# Altium schematic symbol library Connector_Amphenol.SchLib: 3 symbols
Pins are listed as number, name and electrical type; pins without a type are passive.

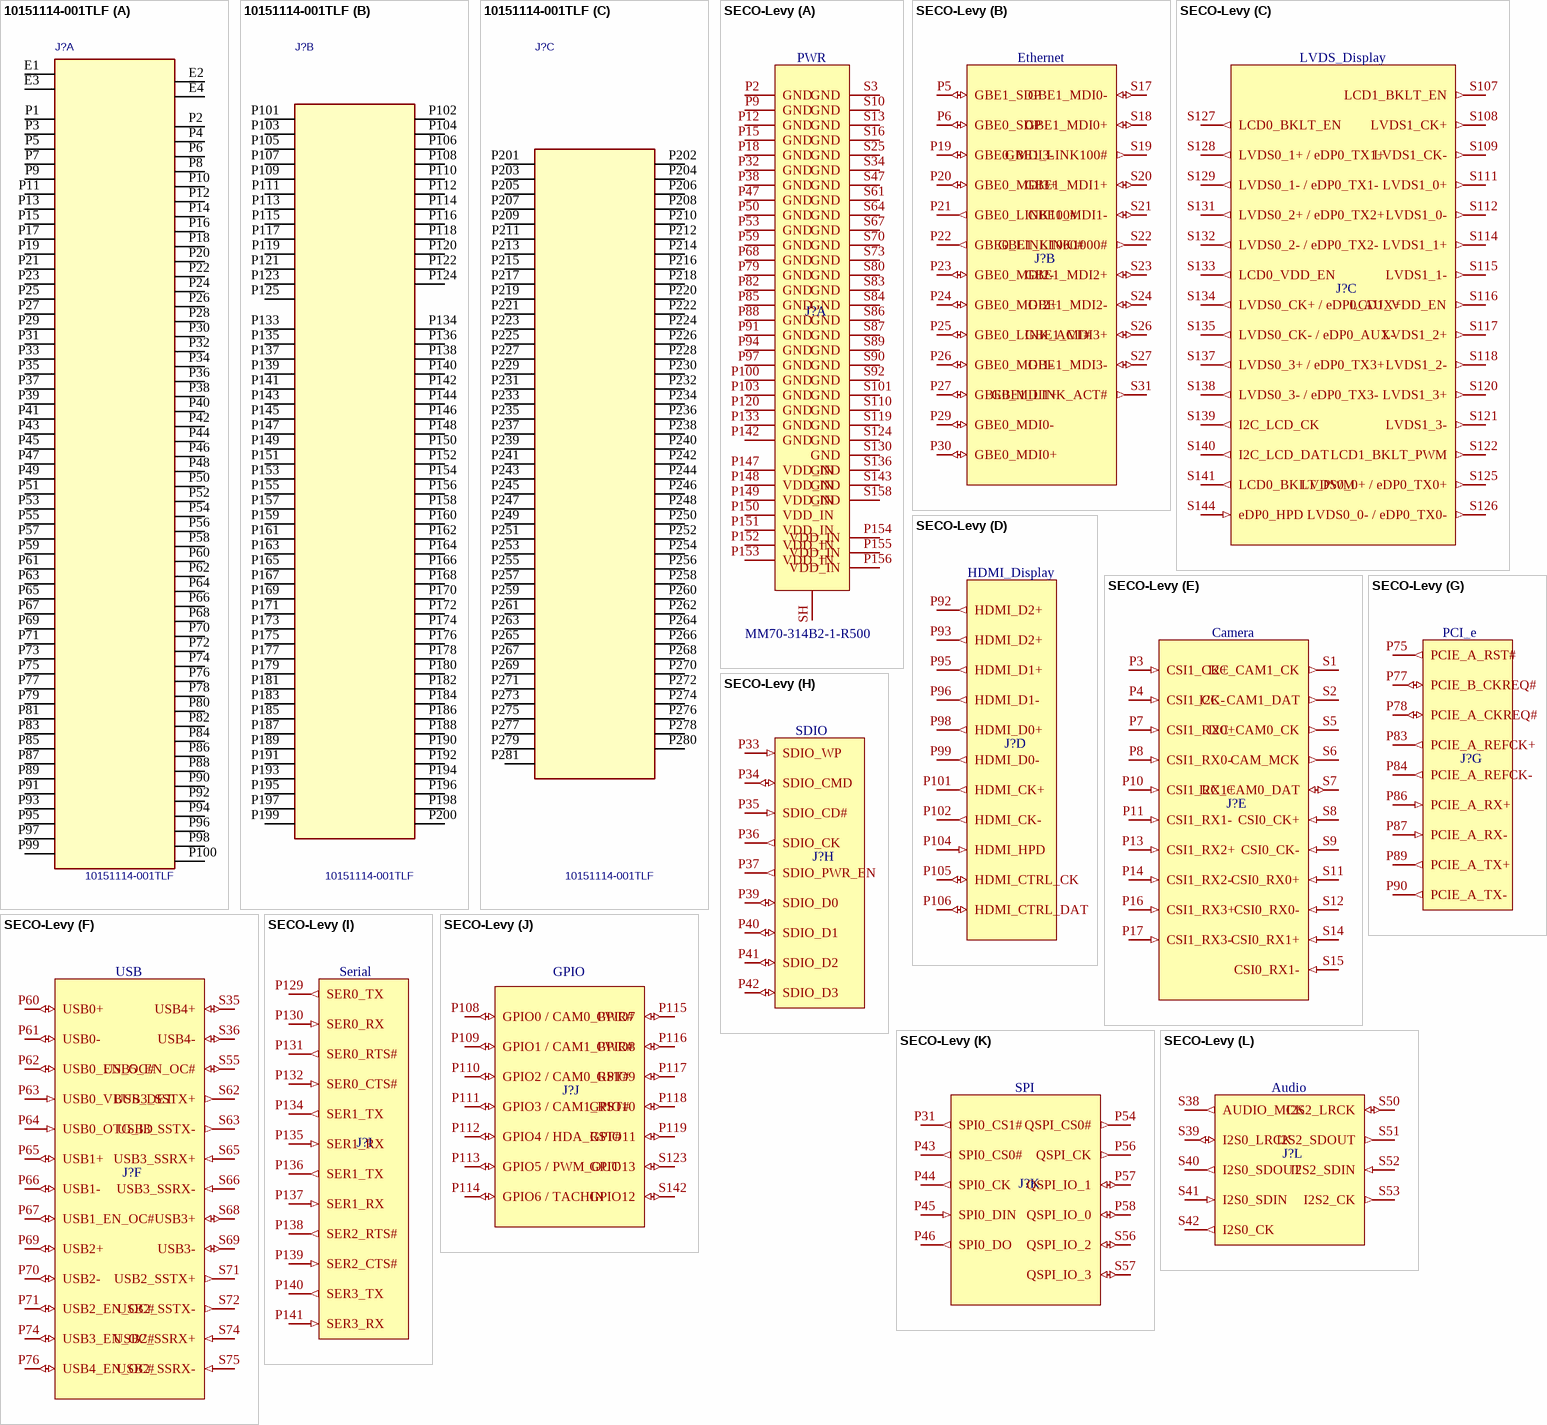
[diagram p0: symbols 10151114-001TLF to SECO-Levy]

## 10151114-001TLF
designator J?  value 10151114-001TLF  (hidden comment: *)
PCIe MXM 3.0 Connectors, Storage and Server Connector, Right Angle, Surface mount, P=0.5mm, Stack Height = 5.0mm, 30μin Gold Plating\n                        \n; Manufacturer: Amphenol Communications Solutions; MF: Amphenol ICC (FCI); Description_: \n                        \n                            PCIe MXM 3.0 Connectors, Storage and Server Connector, Right Angle, Surface mount, P=0.5mm, Stack Height = 5.0mm, 30μin Gold Plating\n                        \n; Contact Resistance: 30mΩ; Current Rating: 1.1A; Dielectric Material: Polyethylene; Operating Force: 1.15N; Plating Thickness: 762nm; Footprint: 10151114-001TLF:AMPHENOL_10151114-001TLF; MAXIMUM_PACKAGE_HEIGHT: 7.8 mm; Package: None; Price: None; Check_prices: https://www.snapeda.com/parts/10151114-001TLF/Amphenol+FCI/view-part/?ref=eda; STANDARD: Manufacturer Recommendations; PARTREV: B; SnapEDA_Link: https://www.snapeda.com/parts/10151114-001TLF/Amphenol+FCI/view-part/?ref=snap; MP: 10151114-001TLF; Availability: In Stock; Category: Card Edge Connectors; China RoHS: Compliant; Contact Gender: Female; Lifecycle Status: Production; Manufacturer Part Number: 10151114-001TLF; Pins: 314; Number of Rows: 2; REACH SVHC: Yes; RoHS: Compliant; Terminal Pitch: 500µm; Supplier 1: Mouser; Supplier Part Number 1: 649-10151114001TLF; Supplier Packaging 1: Tray; Supplier Unit Price 1: $17.50; Supplier Location 1: US
footprint AMPHENOL_10151114-001TLF
part A pins: E1, E2, E3, E4, P1, P2, P3, P4, P5, P6, P7, P8, P9, P10, P11, P12, P13, P14, P15, P16, P17, P18, P19, P20, P21, P22, P23, P24, P25, P26, P27, P28, P29, P30, P31, P32, P33, P34, P35, P36, P37, P38, P39, P40, P41, P42, P43, P44, P45, P46, P47, P48, P49, P50, P51, P52, P53, P54, P55, P56, P57, P58, P59, P60, P61, P62, P63, P64, P65, P66, P67, P68, P69, P70, P71, P72, P73, P74, P75, P76, P77, P78, P79, P80, P81, P82, P83, P84, P85, P86, P87, P88, P89, P90, P91, P92, P93, P94, P95, P96, P97, P98, P99, P100
part B pins: P101, P102, P103, P104, P105, P106, P107, P108, P109, P110, P111, P112, P113, P114, P115, P116, P117, P118, P119, P120, P121, P122, P123, P124, P125, P133, P134, P135, P136, P137, P138, P139, P140, P141, P142, P143, P144, P145, P146, P147, P148, P149, P150, P151, P152, P153, P154, P155, P156, P157, P158, P159, P160, P161, P162, P163, P164, P165, P166, P167, P168, P169, P170, P171, P172, P173, P174, P175, P176, P177, P178, P179, P180, P181, P182, P183, P184, P185, P186, P187, P188, P189, P190, P191, P192, P193, P194, P195, P196, P197, P198, P199, P200
part C pins: P201, P202, P203, P204, P205, P206, P207, P208, P209, P210, P211, P212, P213, P214, P215, P216, P217, P218, P219, P220, P221, P222, P223, P224, P225, P226, P227, P228, P229, P230, P231, P232, P233, P234, P235, P236, P237, P238, P239, P240, P241, P242, P243, P244, P245, P246, P247, P248, P249, P250, P251, P252, P253, P254, P255, P256, P257, P258, P259, P260, P261, P262, P263, P264, P265, P266, P267, P268, P269, P270, P271, P272, P273, P274, P275, P276, P277, P278, P279, P280, P281

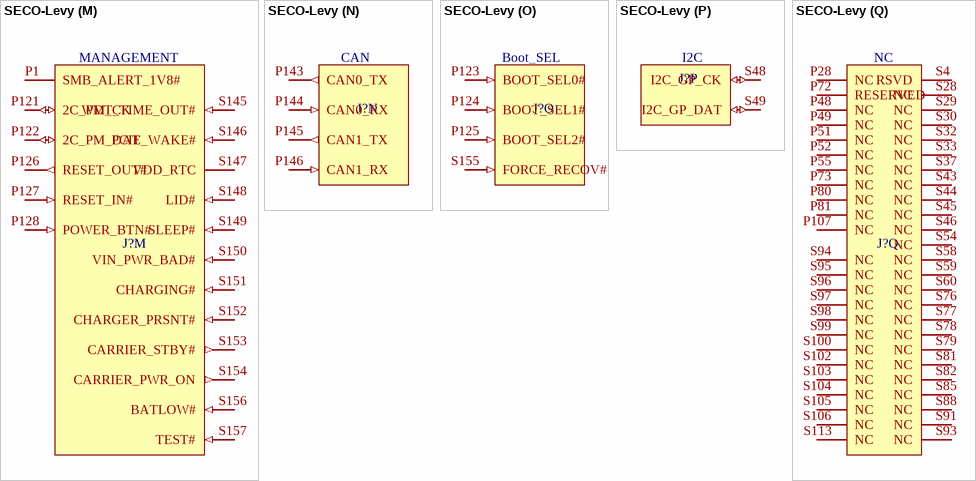
[diagram p1: symbol SECO-Levy]

## SECO-Levy
designator J?  (value not drawn)
Manufacturer: Amphenol Communications Solutions; Manufacturer Part Number: 10151114-001TLF; Contact Resistance: 30mΩ; Current Rating: 1.1A; Dielectric Material: Polyethylene; Gender: Female; Number of Positions: 314; Operating Force: 1.15N; Plating Thickness: 762nm; Ratings: CSA; Category: Card Edge Connectors; China RoHS: Compliant; Color: Black; Lifecycle Status: Production; Number of Rows: 2; REACH SVHC: Yes; RoHS: Compliant; Terminal Pitch: 500µm; Supplier 1: Mouser; Supplier Part Number 1: 649-10151114001TLF; Supplier Packaging 1: Tray; Supplier Unit Price 1: $14.74; Supplier Location 1: US; Manufacturer 2: JAE Electronics; Manufacturer Part Number 2: MM70-314B2-1-R500; DNP: *
footprint Levy
part A pins: P2 GND (power), P9 GND (power), P12 GND (power), P15 GND (power), P18 GND (power), P32 GND (power), P38 GND (power), P47 GND (power), P50 GND (power), P53 GND (power), P59 GND (power), P68 GND (power), P79 GND (power), P82 GND (power), P85 GND (power), P88 GND (power), P91 GND (power), P94 GND (power), P97 GND (power), P100 GND (power), P103 GND (power), P120 GND (power), P133 GND (power), P142 GND (power), P147 VDD_IN (power), P148 VDD_IN (power), P149 VDD_IN (power), P150 VDD_IN (power), P151 VDD_IN (power), P152 VDD_IN (power), P153 VDD_IN (power), P154 VDD_IN (power), P155 VDD_IN (power), P156 VDD_IN (power), S3 GND (power), S10 GND (power), S13 GND (power), S16 GND (power), S25 GND (power), S34 GND (power), S47 GND (power), S61 GND (power), S64 GND (power), S67 GND (power), S70 GND (power), S73 GND (power), S80 GND (power), S83 GND (power), S84 GND (power), S86 GND (power), S87 GND (power), S89 GND (power), S90 GND (power), S92 GND (power), S101 GND (power), S110 GND (power), S119 GND (power), S124 GND (power), S130 GND (power), S136 GND (power), S143 GND (power), S158 GND (power), SH (power)
part B pins: P5 GBE1_SDP (io) "Ethernet", P6 GBE0_SDP (io), P19 GBE0_MDI3- (io), P20 GBE0_MDI3+ (io), P21 GBE0_LINK100# (out), P22 GBE0_LINK1000# (out), P23 GBE0_MDI2- (io), P24 GBE0_MDI2+ (io), P25 GBE0_LINK_ACT# (io), P26 GBE0_MDI1- (io), P27 GBE0_MDI1+ (io), P29 GBE0_MDI0- (io), P30 GBE0_MDI0+ (io), S17 GBE1_MDI0- (io), S18 GBE1_MDI0+ (io), S19 GBE1_LINK100# (out), S20 GBE1_MDI1+ (io), S21 GBE1_MDI1- (io), S22 GBE1_LINK1000# (out), S23 GBE1_MDI2+ (io), S24 GBE1_MDI2- (io), S26 GBE1_MDI3+ (io), S27 GBE1_MDI3- (io), S31 GBE1_LINK_ACT# (out)
part C pins: S107 LCD1_BKLT_EN (out), S108 LVDS1_CK+ (out), S109 LVDS1_CK- (out), S111 LVDS1_0+ (out), S112 LVDS1_0- (out), S114 LVDS1_1+ (out), S115 LVDS1_1- (out), S116 LCD1_VDD_EN (out), S117 LVDS1_2+ (out), S118 LVDS1_2- (out), S120 LVDS1_3+ (out), S121 LVDS1_3- (out), S122 LCD1_BKLT_PWM (out), S125 LVDS0_0+ / eDP0_TX0+ (out), S126 LVDS0_0- / eDP0_TX0- (out), S127 LCD0_BKLT_EN (out), S128 LVDS0_1+ / eDP0_TX1+ (out), S129 LVDS0_1- / eDP0_TX1- (out), S131 LVDS0_2+ / eDP0_TX2+ (out), S132 LVDS0_2- / eDP0_TX2- (out), S133 LCD0_VDD_EN (out), S134 LVDS0_CK+ / eDP0_AUX+ (out), S135 LVDS0_CK- / eDP0_AUX- (out), S137 LVDS0_3+ / eDP0_TX3+ (out), S138 LVDS0_3- / eDP0_TX3- (out), S139 I2C_LCD_CK (out), S140 I2C_LCD_DAT (out), S141 LCD0_BKLT_PWM (out), S144 eDP0_HPD (in)
part D pins: P92 HDMI_D2+ (out), P93 HDMI_D2+ (out), P95 HDMI_D1+ (out), P96 HDMI_D1- (out), P98 HDMI_D0+ (out), P99 HDMI_D0- (out), P101 HDMI_CK+ (out), P102 HDMI_CK- (out), P104 HDMI_HPD (in), P105 HDMI_CTRL_CK (io), P106 HDMI_CTRL_DAT (io)
part E pins: P3 CSI1_CK+ (in), P4 CSI1_CK- (in), P7 CSI1_RX0+ (in), P8 CSI1_RX0- (in), P10 CSI1_RX1+ (in), P11 CSI1_RX1- (in), P13 CSI1_RX2+ (in), P14 CSI1_RX2- (in), P16 CSI1_RX3+ (in), P17 CSI1_RX3- (in), S1 I2C_CAM1_CK (out), S2 I2C_CAM1_DAT (out), S5 I2C_CAM0_CK (out), S6 CAM_MCK (out), S7 I2C_CAM0_DAT (io), S8 CSI0_CK+ (in), S9 CSI0_CK- (in), S11 CSI0_RX0+ (in), S12 CSI0_RX0- (in), S14 CSI0_RX1+ (in), S15 CSI0_RX1- (in)
part F pins: P60 USB0+ (io), P61 USB0- (io), P62 USB0_EN_OC# (io), P63 USB0_VBUS_DET (in), P64 USB0_OTG_ID (in), P65 USB1+ (io), P66 USB1- (io), P67 USB1_EN_OC# (io), P69 USB2+ (io), P70 USB2- (io), P71 USB2_EN_OC# (io), P74 USB3_EN_OC# (io), P76 USB4_EN_OC# (io), S35 USB4+ (io), S36 USB4- (io), S55 USB5_EN_OC# (io), S62 USB3_SSTX+ (out), S63 USB3_SSTX- (out), S65 USB3_SSRX+ (in), S66 USB3_SSRX- (in), S68 USB3+ (io), S69 USB3- (io), S71 USB2_SSTX+ (out), S72 USB2_SSTX- (out), S74 USB2_SSRX+ (in), S75 USB2_SSRX- (in)
part G pins: P75 PCIE_A_RST# (out), P77 PCIE_B_CKREQ# (io), P78 PCIE_A_CKREQ# (io), P83 PCIE_A_REFCK+ (out), P84 PCIE_A_REFCK- (out), P86 PCIE_A_RX+ (in), P87 PCIE_A_RX- (in), P89 PCIE_A_TX+ (out), P90 PCIE_A_TX- (out)
part H pins: P33 SDIO_WP (in), P34 SDIO_CMD (io), P35 SDIO_CD# (in), P36 SDIO_CK (out), P37 SDIO_PWR_EN (out), P39 SDIO_D0 (io), P40 SDIO_D1 (io), P41 SDIO_D2 (io), P42 SDIO_D3 (io)
part I pins: P129 SER0_TX (out), P130 SER0_RX (in), P131 SER0_RTS# (out), P132 SER0_CTS# (in), P134 SER1_TX (out), P135 SER1_RX (in), P136 SER1_TX (out), P137 SER1_RX (in), P138 SER2_RTS# (out), P139 SER2_CTS# (in), P140 SER3_TX (out), P141 SER3_RX (in)
part J pins: P108 GPIO0 / CAM0_PWR# (io), P109 GPIO1 / CAM1_PWR# (io), P110 GPIO2 / CAM0_RST# (io), P111 GPIO3 / CAM1_RST# (io), P112 GPIO4 / HDA_RST# (io), P113 GPIO5 / PWM_OUT (io), P114 GPIO6 / TACHIN (io), P115 GPIO7 (io), P116 GPIO8 (io), P117 GPIO9 (io), P118 GPIO10 (io), P119 GPIO11 (io), S123 GPIO13 (io), S142 GPIO12 (io)
part K pins: P31 SPI0_CS1# (out), P43 SPI0_CS0# (out), P44 SPI0_CK (out), P45 SPI0_DIN (in), P46 SPI0_DO (out), P54 QSPI_CS0# (out), P56 QSPI_CK (out), P57 QSPI_IO_1 (io), P58 QSPI_IO_0 (io), S56 QSPI_IO_2 (io), S57 QSPI_IO_3 (io)
part L pins: S38 AUDIO_MCK (out), S39 I2S0_LRCK (io), S40 I2S0_SDOUT (out), S41 I2S0_SDIN (in), S42 I2S0_CK (out), S50 I2S2_LRCK (io), S51 I2S2_SDOUT (out), S52 I2S2_SDIN (in), S53 I2S2_CK (out)
part M pins: P1 SMB_ALERT_1V8# (power), P121 2C_PM_CK (io), P122 2C_PM_DAT (io), P126 RESET_OUT# (out), P127 RESET_IN# (in), P128 POWER_BTN# (in), S145 WDT_TIME_OUT# (in), S146 PCIE_WAKE# (in), S147 VDD_RTC (power), S148 LID# (in), S149 SLEEP# (in), S150 VIN_PWR_BAD# (in), S151 CHARGING# (in), S152 CHARGER_PRSNT# (in), S153 CARRIER_STBY# (out), S154 CARRIER_PWR_ON (out), S156 BATLOW# (in), S157 TEST# (in)
part N pins: P143 CAN0_TX (out), P144 CAN0_RX (in), P145 CAN1_TX (out), P146 CAN1_RX (in)
part O pins: P123 BOOT_SEL0# (in), P124 BOOT_SEL1# (in), P125 BOOT_SEL2# (in), S155 FORCE_RECOV# (in)
part P pins: S48 I2C_GP_CK (io), S49 I2C_GP_DAT (io)
part Q pins: P28 NC, P48 NC, P49 NC, P51 NC, P52 NC, P55 NC, P72 RESERVED, P73 NC, P80 NC, P81 NC, P107 NC, S4 RSVD, S28 NC, S29 NC, S30 NC, S32 NC, S33 NC, S37 NC, S43 NC, S44 NC, S45 NC, S46 NC, S54 NC, S58 NC, S59 NC, S60 NC, S76 NC, S77 NC, S78 NC, S79 NC, S81 NC, S82 NC, S85 NC, S88 NC, S91 NC, S93 NC, S94 NC, S95 NC, S96 NC, S97 NC, S98 NC, S99 NC, S100 NC, S102 NC, S103 NC, S104 NC, S105 NC, S106 NC, S113 NC
part A text: PWR
part B text: Ethernet
part C text: LVDS_Display
part D text: HDMI_Display
part E text: Camera
part F text: USB
part G text: PCI_e
part H text: SDIO
part I text: Serial
part J text: GPIO
part K text: SPI
part L text: Audio
part M text: MANAGEMENT
part N text: CAN
part O text: Boot_SEL
part P text: I2C

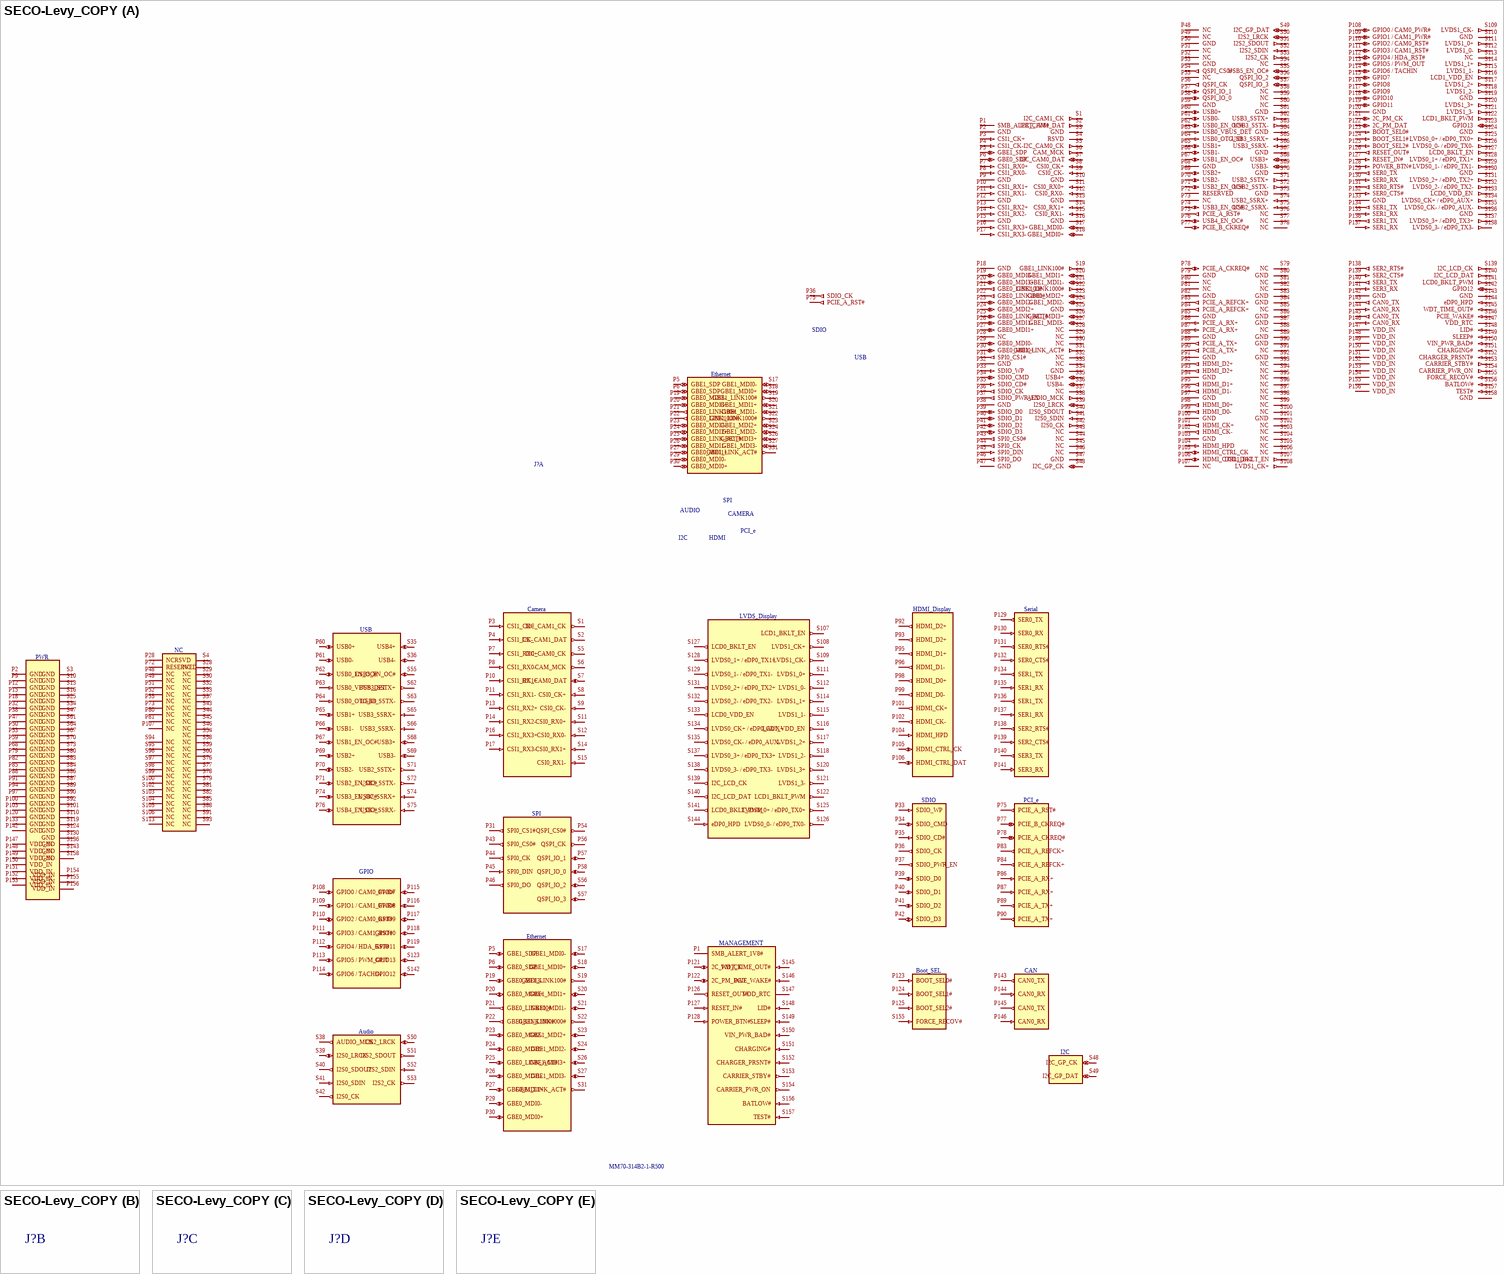
[diagram p2: symbol SECO-Levy_COPY]

## SECO-Levy_COPY
designator J?  (value not drawn)
part A pins: P1 SMB_ALERT_1V8# (power), P1 SMB_ALERT_1V8# (power), P2 GND (power), P2 GND (power), P3 CSI1_CK+ (in), P3 CSI1_CK+ (in), P4 CSI1_CK- (in), P4 CSI1_CK- (in), P5 GBE1_SDP (io) "Ethernet", P5 GBE1_SDP (io) "Ethernet", P5 GBE1_SDP (io) "Ethernet", P6 GBE0_SDP (io), P6 GBE0_SDP (io), P6 GBE0_SDP (io), P7 CSI1_RX0+ (in), P7 CSI1_RX0+ (in), P8 CSI1_RX0- (in), P8 CSI1_RX0- (in), P9 GND (power), P9 GND (power), P10 CSI1_RX1+ (in), P10 CSI1_RX1+ (in), P11 CSI1_RX1- (in), P11 CSI1_RX1- (in), P12 GND (power), P12 GND (power), P13 CSI1_RX2+ (in), P13 CSI1_RX2+ (in), P14 CSI1_RX2- (in), P14 CSI1_RX2- (in), P15 GND (power), P15 GND (power), P16 CSI1_RX3+ (in), P16 CSI1_RX3+ (in), P17 CSI1_RX3- (in), P17 CSI1_RX3- (in), P18 GND (power), P18 GND (power), P19 GBE0_MDI3- (io), P19 GBE0_MDI3- (io), P19 GBE0_MDI3- (io), P20 GBE0_MDI3+ (io), P20 GBE0_MDI3+ (io), P20 GBE0_MDI3+ (io), P21 GBE0_LINK100# (out), P21 GBE0_LINK100# (out), P21 GBE0_LINK100# (out), P22 GBE0_LINK1000# (out), P22 GBE0_LINK1000# (out), P22 GBE0_LINK1000# (out), P23 GBE0_MDI2- (io), P23 GBE0_MDI2- (io), P23 GBE0_MDI2- (io), P24 GBE0_MDI2+ (io), P24 GBE0_MDI2+ (io), P24 GBE0_MDI2+ (io), P25 GBE0_LINK_ACT# (io), P25 GBE0_LINK_ACT# (io), P25 GBE0_LINK_ACT# (io), P26 GBE0_MDI1- (io), P26 GBE0_MDI1- (io), P26 GBE0_MDI1- (io), P27 GBE0_MDI1+ (io), P27 GBE0_MDI1+ (io), P27 GBE0_MDI1+ (io), P28 NC, P28 NC, P29 GBE0_MDI0- (io), P29 GBE0_MDI0- (io), P29 GBE0_MDI0- (io), P30 GBE0_MDI0+ (io), P30 GBE0_MDI0+ (io), P30 GBE0_MDI0+ (io), P31 SPI0_CS1# (out), P31 SPI0_CS1# (out), P32 GND (power), P32 GND (power), P33 SDIO_WP (in), P33 SDIO_WP (in), P34 SDIO_CMD (io), P34 SDIO_CMD (io), P35 SDIO_CD# (in), P35 SDIO_CD# (in), P36 SDIO_CK (out), P36 SDIO_CK (out), P36 SDIO_CK (out), P37 SDIO_PWR_EN (out), P37 SDIO_PWR_EN (out), P38 GND (power), P38 GND (power), P39 SDIO_D0 (io), P39 SDIO_D0 (io), P40 SDIO_D1 (io), P40 SDIO_D1 (io), P41 SDIO_D2 (io), P41 SDIO_D2 (io), P42 SDIO_D3 (io), P42 SDIO_D3 (io), P43 SPI0_CS0# (out), P43 SPI0_CS0# (out), P44 SPI0_CK (out), P44 SPI0_CK (out), P45 SPI0_DIN (in), P45 SPI0_DIN (in), P46 SPI0_DO (out), P46 SPI0_DO (out), P47 GND (power), P47 GND (power), P48 NC, P48 NC, P49 NC, P49 NC, P50 GND (power), P50 GND (power), P51 NC, P51 NC, P52 NC, P52 NC, P53 GND (power), P53 GND (power), P54 QSPI_CS0# (out), P54 QSPI_CS0# (out), P55 NC, P55 NC, P56 QSPI_CK (out), P56 QSPI_CK (out), P57 QSPI_IO_1 (io), P57 QSPI_IO_1 (io), P58 QSPI_IO_0 (io), P58 QSPI_IO_0 (io), P59 GND (power), P59 GND (power), P60 USB0+ (io), P60 USB0+ (io), P61 USB0- (io), P61 USB0- (io), P62 USB0_EN_OC# (io), P62 USB0_EN_OC# (io), P63 USB0_VBUS_DET (in), P63 USB0_VBUS_DET (in), P64 USB0_OTG_ID (in), P64 USB0_OTG_ID (in), P65 USB1+ (io), P65 USB1+ (io), P66 USB1- (io), P66 USB1- (io), P67 USB1_EN_OC# (io), P67 USB1_EN_OC# (io), P68 GND (power), P68 GND (power), P69 USB2+ (io), P69 USB2+ (io), P70 USB2- (io), P70 USB2- (io), P71 USB2_EN_OC# (io), P71 USB2_EN_OC# (io), P72 RESERVED, P72 RESERVED, P73 NC, P73 NC, P74 USB3_EN_OC# (io), P74 USB3_EN_OC# (io), P75 PCIE_A_RST# (out), P75 PCIE_A_RST# (out), P75 PCIE_A_RST# (out), P76 USB4_EN_OC# (io), P76 USB4_EN_OC# (io), P77 PCIE_B_CKREQ# (io), P77 PCIE_B_CKREQ# (io), P78 PCIE_A_CKREQ# (io), P78 PCIE_A_CKREQ# (io), P79 GND (power), P79 GND (power), P80 NC, P80 NC, P81 NC, P81 NC, P82 GND (power), P82 GND (power), P83 PCIE_A_REFCK+ (out), P83 PCIE_A_REFCK+ (out), P84 PCIE_A_REFCK+ (out), P84 PCIE_A_REFCK+ (out), P85 GND (power), P85 GND (power), P86 PCIE_A_RX+ (in), P86 PCIE_A_RX+ (in), P87 PCIE_A_RX+ (in), P87 PCIE_A_RX+ (in), P88 GND (power), P88 GND (power), P89 PCIE_A_TX+ (out), P89 PCIE_A_TX+ (out), P90 PCIE_A_TX+ (out), P90 PCIE_A_TX+ (out), P91 GND (power), P91 GND (power), P92 HDMI_D2+ (out), P92 HDMI_D2+ (out), P93 HDMI_D2+ (out), P93 HDMI_D2+ (out), P94 GND (power), P94 GND (power), P95 HDMI_D1+ (out), P95 HDMI_D1+ (out), P96 HDMI_D1- (out), P96 HDMI_D1- (out), P97 GND (power), P97 GND (power), P98 HDMI_D0+ (out), P98 HDMI_D0+ (out), P99 HDMI_D0- (out), P99 HDMI_D0- (out), P100 GND (power), P100 GND (power), P101 HDMI_CK+ (out), P101 HDMI_CK+ (out), P102 HDMI_CK- (out), P102 HDMI_CK- (out), P103 GND (power), P103 GND (power), P104 HDMI_HPD (in), P104 HDMI_HPD (in), P105 HDMI_CTRL_CK (io), P105 HDMI_CTRL_CK (io), P106 HDMI_CTRL_DAT (io), P106 HDMI_CTRL_DAT (io), P107 NC, P107 NC, P108 GPIO0 / CAM0_PWR# (io), P108 GPIO0 / CAM0_PWR# (io), P109 GPIO1 / CAM1_PWR# (io), P109 GPIO1 / CAM1_PWR# (io), P110 GPIO2 / CAM0_RST# (io), P110 GPIO2 / CAM0_RST# (io), P111 GPIO3 / CAM1_RST# (io), P111 GPIO3 / CAM1_RST# (io), P112 GPIO4 / HDA_RST# (io), P112 GPIO4 / HDA_RST# (io), P113 GPIO5 / PWM_OUT (io), P113 GPIO5 / PWM_OUT (io), P114 GPIO6 / TACHIN (io), P114 GPIO6 / TACHIN (io), P115 GPIO7 (io), P115 GPIO7 (io), P116 GPIO8 (io), P116 GPIO8 (io), P117 GPIO9 (io), P117 GPIO9 (io), P118 GPIO10 (io), P118 GPIO10 (io), P119 GPIO11 (io), P119 GPIO11 (io), P120 GND (power), P120 GND (power), P121 2C_PM_CK (io), P121 2C_PM_CK (io), P122 2C_PM_DAT (io), P122 2C_PM_DAT (io), P123 BOOT_SEL0# (in), P123 BOOT_SEL0# (in), P124 BOOT_SEL1# (in), P124 BOOT_SEL1# (in), P125 BOOT_SEL2# (in), P125 BOOT_SEL2# (in), P126 RESET_OUT# (out), P126 RESET_OUT# (out), P127 RESET_IN# (in), P127 RESET_IN# (in), P128 POWER_BTN# (in), P128 POWER_BTN# (in), P129 SER0_TX (out), P129 SER0_TX (out), P130 SER0_RX (in), P130 SER0_RX (in), P131 SER0_RTS# (out), P131 SER0_RTS# (out), P132 SER0_CTS# (in), P132 SER0_CTS# (in), P133 GND (power), P133 GND (power), P134 SER1_TX (out), P134 SER1_TX (out), P135 SER1_RX (in), P135 SER1_RX (in), P136 SER1_TX (out), P136 SER1_TX (out), P137 SER1_RX (in), P137 SER1_RX (in), P138 SER2_RTS# (out), P138 SER2_RTS# (out), P139 SER2_CTS# (in), P139 SER2_CTS# (in), P140 SER3_TX (out), P140 SER3_TX (out), P141 SER3_RX (in), P141 SER3_RX (in), P142 GND (power), P142 GND (power), P143 CAN0_TX (out), P143 CAN0_TX (out), P144 CAN0_RX (in), P144 CAN0_RX (in), P145 CAN0_TX (out), P145 CAN0_TX (out), P146 CAN0_RX (in), P146 CAN0_RX (in), P147 VDD_IN (power), P147 VDD_IN (power), P148 VDD_IN (power), P148 VDD_IN (power), P149 VDD_IN (power), P149 VDD_IN (power), P150 VDD_IN (power), P150 VDD_IN (power), P151 VDD_IN (power), P151 VDD_IN (power), P152 VDD_IN (power), P152 VDD_IN (power), P153 VDD_IN (power), P153 VDD_IN (power), P154 VDD_IN (power), P154 VDD_IN (power), P155 VDD_IN (power), P155 VDD_IN (power), P156 VDD_IN (power), P156 VDD_IN (power), S1 I2C_CAM1_CK (out), S1 I2C_CAM1_CK (out), S2 I2C_CAM1_DAT (out), S2 I2C_CAM1_DAT (out), S3 GND (power), S3 GND (power), S4 RSVD, S4 RSVD, S5 I2C_CAM0_CK (out), S5 I2C_CAM0_CK (out), S6 CAM_MCK (out), S6 CAM_MCK (out), S7 I2C_CAM0_DAT (io), S7 I2C_CAM0_DAT (io), S8 CSI0_CK+ (in), S8 CSI0_CK+ (in), S9 CSI0_CK- (in), S9 CSI0_CK- (in), S10 GND (power), S10 GND (power), S11 CSI0_RX0+ (in), S11 CSI0_RX0+ (in), S12 CSI0_RX0- (in), S12 CSI0_RX0- (in), S13 GND (power), S13 GND (power), S14 CSI0_RX1+ (in), S14 CSI0_RX1+ (in), S15 CSI0_RX1- (in), S15 CSI0_RX1- (in), S16 GND (power), S16 GND (power), S17 GBE1_MDI0- (io), S17 GBE1_MDI0- (io), S17 GBE1_MDI0- (io), S18 GBE1_MDI0+ (io), S18 GBE1_MDI0+ (io), S18 GBE1_MDI0+ (io), S19 GBE1_LINK100# (out), S19 GBE1_LINK100# (out), S19 GBE1_LINK100# (out), S20 GBE1_MDI1+ (io), S20 GBE1_MDI1+ (io), S20 GBE1_MDI1+ (io), S21 GBE1_MDI1- (io), S21 GBE1_MDI1- (io), S21 GBE1_MDI1- (io), S22 GBE1_LINK1000# (out), S22 GBE1_LINK1000# (out), S22 GBE1_LINK1000# (out), S23 GBE1_MDI2+ (io), S23 GBE1_MDI2+ (io), S23 GBE1_MDI2+ (io), S24 GBE1_MDI2- (io), S24 GBE1_MDI2- (io), S24 GBE1_MDI2- (io), S25 GND (power), S25 GND (power), S26 GBE1_MDI3+ (io), S26 GBE1_MDI3+ (io), S26 GBE1_MDI3+ (io), S27 GBE1_MDI3- (io), S27 GBE1_MDI3- (io), S27 GBE1_MDI3- (io), S28 NC, S28 NC, S29 NC, S29 NC, S30 NC, S30 NC, S31 GBE1_LINK_ACT# (out), S31 GBE1_LINK_ACT# (out), S31 GBE1_LINK_ACT# (out), S32 NC, S32 NC, S33 NC, S33 NC, S34 GND (power), S34 GND (power), S35 USB4+ (io), S35 USB4+ (io), S36 USB4- (io), S36 USB4- (io), S37 NC, S37 NC, S38 AUDIO_MCK (out), S38 AUDIO_MCK (out), S39 I2S0_LRCK (io), S39 I2S0_LRCK (io), S40 I2S0_SDOUT (out), S40 I2S0_SDOUT (out), S41 I2S0_SDIN (in), S41 I2S0_SDIN (in), S42 I2S0_CK (out), S42 I2S0_CK (out), S43 NC, S43 NC, S44 NC, S44 NC, S45 NC, S45 NC, S46 NC, S46 NC, S47 GND (power), S47 GND (power), S48 I2C_GP_CK (io), S48 I2C_GP_CK (io), S49 I2C_GP_DAT (io), S49 I2C_GP_DAT (io), S50 I2S2_LRCK (io), S50 I2S2_LRCK (io), S51 I2S2_SDOUT (out), S51 I2S2_SDOUT (out), S52 I2S2_SDIN (in), S52 I2S2_SDIN (in), S53 I2S2_CK (out), S53 I2S2_CK (out), S54 NC, S54 NC, S55 USB5_EN_OC# (io), S55 USB5_EN_OC# (io), S56 QSPI_IO_2 (io), S56 QSPI_IO_2 (io), S57 QSPI_IO_3 (io), S57 QSPI_IO_3 (io), S58 NC, S58 NC, S59 NC, S59 NC, S60 NC, S60 NC, S61 GND (power), S61 GND (power), S62 USB3_SSTX+ (out), S62 USB3_SSTX+ (out), S63 USB3_SSTX- (out), S63 USB3_SSTX- (out), S64 GND (power), S64 GND (power), S65 USB3_SSRX+ (in), S65 USB3_SSRX+ (in), S66 USB3_SSRX- (in), S66 USB3_SSRX- (in), S67 GND (power), S67 GND (power), S68 USB3+ (io), S68 USB3+ (io), S69 USB3- (io), S69 USB3- (io), S70 GND (power), S70 GND (power), S71 USB2_SSTX+ (out), S71 USB2_SSTX+ (out), S72 USB2_SSTX- (out), S72 USB2_SSTX- (out), S73 GND (power), S73 GND (power), S74 USB2_SSRX+ (in), S74 USB2_SSRX+ (in), S75 USB2_SSRX- (in), S75 USB2_SSRX- (in), S76 NC, S76 NC, S77 NC, S77 NC, S78 NC, S78 NC, S79 NC, S79 NC, S80 GND (power), S80 GND (power), S81 NC, S81 NC, S82 NC, S82 NC, S83 GND (power), S83 GND (power), S84 GND (power), S84 GND (power), S85 NC, S85 NC, S86 GND (power), S86 GND (power), S87 GND (power), S87 GND (power), S88 NC, S88 NC, S89 GND (power), S89 GND (power), S90 GND (power), S90 GND (power), S91 NC, S91 NC, S92 GND (power), S92 GND (power), S93 NC, S93 NC, S94 NC, S94 NC, S95 NC, S95 NC, S96 NC, S96 NC, S97 NC, S97 NC, S98 NC, S98 NC, S99 NC, S99 NC, S100 NC, S100 NC, S101 GND (power), S101 GND (power), S102 NC, S102 NC, S103 NC, S103 NC, S104 NC, S104 NC, S105 NC, S105 NC, S106 NC, S106 NC, S107 LCD1_BKLT_EN (out), S107 LCD1_BKLT_EN (out), S108 LVDS1_CK+ (out), S108 LVDS1_CK+ (out), S109 LVDS1_CK- (out), S109 LVDS1_CK- (out), S110 GND (power), S110 GND (power), S111 LVDS1_0+ (out), S111 LVDS1_0+ (out), S112 LVDS1_0- (out), S112 LVDS1_0- (out), S113 NC, S113 NC, S114 LVDS1_1+ (out), S114 LVDS1_1+ (out), S115 LVDS1_1- (out), S115 LVDS1_1- (out), S116 LCD1_VDD_EN (out), S116 LCD1_VDD_EN (out), S117 LVDS1_2+ (out), S117 LVDS1_2+ (out), S118 LVDS1_2- (out), S118 LVDS1_2- (out), S119 GND (power), S119 GND (power), S120 LVDS1_3+ (out), S120 LVDS1_3+ (out), S121 LVDS1_3- (out), S121 LVDS1_3- (out), S122 LCD1_BKLT_PWM (out), S122 LCD1_BKLT_PWM (out), S123 GPIO13 (io), S123 GPIO13 (io), S124 GND (power), S124 GND (power), S125 LVDS0_0+ / eDP0_TX0+ (out), S125 LVDS0_0+ / eDP0_TX0+ (out), S126 LVDS0_0- / eDP0_TX0- (out), S126 LVDS0_0- / eDP0_TX0- (out), S127 LCD0_BKLT_EN (out), S127 LCD0_BKLT_EN (out), S128 LVDS0_1+ / eDP0_TX1+ (out), S128 LVDS0_1+ / eDP0_TX1+ (out), S129 LVDS0_1- / eDP0_TX1- (out), S129 LVDS0_1- / eDP0_TX1- (out), S130 GND (power), S130 GND (power), S131 LVDS0_2+ / eDP0_TX2+ (out), S131 LVDS0_2+ / eDP0_TX2+ (out), S132 LVDS0_2- / eDP0_TX2- (out), S132 LVDS0_2- / eDP0_TX2- (out), S133 LCD0_VDD_EN (out), S133 LCD0_VDD_EN (out), S134 LVDS0_CK+ / eDP0_AUX+ (out), S134 LVDS0_CK+ / eDP0_AUX+ (out), S135 LVDS0_CK- / eDP0_AUX- (out), S135 LVDS0_CK- / eDP0_AUX- (out), S136 GND (power), S136 GND (power), S137 LVDS0_3+ / eDP0_TX3+ (out), S137 LVDS0_3+ / eDP0_TX3+ (out), S138 LVDS0_3- / eDP0_TX3- (out), S138 LVDS0_3- / eDP0_TX3- (out), S139 I2C_LCD_CK (out), S139 I2C_LCD_CK (out), S140 I2C_LCD_DAT (out), S140 I2C_LCD_DAT (out), S141 LCD0_BKLT_PWM (out), S141 LCD0_BKLT_PWM (out), S142 GPIO12 (io), S142 GPIO12 (io), S143 GND (power), S143 GND (power), S144 eDP0_HPD (in), S144 eDP0_HPD (in), S145 WDT_TIME_OUT# (in), S145 WDT_TIME_OUT# (in), S146 PCIE_WAKE# (in), S146 PCIE_WAKE# (in), S147 VDD_RTC (power), S147 VDD_RTC (power), S148 LID# (in), S148 LID# (in), S149 SLEEP# (in), S149 SLEEP# (in), S150 VIN_PWR_BAD# (in), S150 VIN_PWR_BAD# (in), S151 CHARGING# (in), S151 CHARGING# (in), S152 CHARGER_PRSNT# (in), S152 CHARGER_PRSNT# (in), S153 CARRIER_STBY# (out), S153 CARRIER_STBY# (out), S154 CARRIER_PWR_ON (out), S154 CARRIER_PWR_ON (out), S155 FORCE_RECOV# (in), S155 FORCE_RECOV# (in), S156 BATLOW# (in), S156 BATLOW# (in), S157 TEST# (in), S157 TEST# (in), S158 GND (power), S158 GND (power)
part A text: SDIO; USB; Ethernet; SPI; AUDIO; CAMERA; PCI_e; I2C; HDMI; Camera; HDMI_Display; Serial; LVDS_Display; PWR; GPIO; MANAGEMENT; Boot_SEL; CAN; Audio; MM70-314B2-1-R500